# Altium footprint library CAPPRD250W50D630H1100V - 0 - 0.PcbLib: 1 footprints
Each footprint in its own frame and in the unit in brackets; x right, y up, seen from the top. Pads: shape width x height; smd on the part's side, far side on the other; paste and mask are expansions set on the pad; w line width, h text height; cw(c..) or ccw(c..) is an arc to the next point about the centre after c.
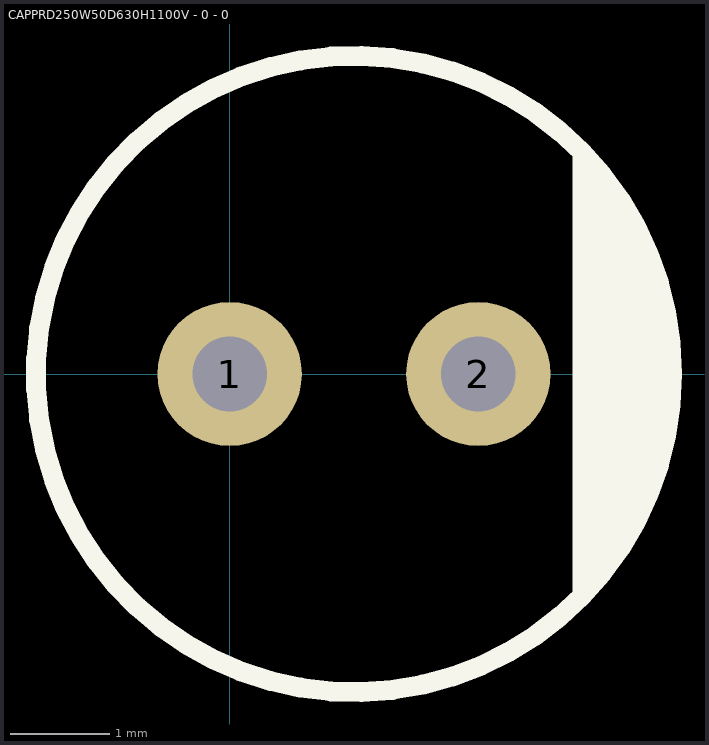
[diagram p0: the footprint, top view; thin cyan lines are the x and y axes]

## CAPPRD250W50D630H1100V - 0 - 0 [mm] "CAP ALUM RADIAL DIA 6.3MM HEIGHT 11MM PITCH 2.5MM"
height 11
pads (2):
  round 1.45 hole 0.75: 1(0,0) 2(2.5,0)
Top Overlay:
  circle w0.2: c1.25,0 r3.2
  region: 3.45,2.3 3.45,-2.3 3.85,-1.9 3.993,-1.757 4.217,-1.422 4.371,-1.049 4.45,-0.653 4.45,-0.451 4.45,0.248 4.45,0.498 4.352,0.989 4.161,1.451 3.883,1.867 3.706,2.044
3D body: height 11, standoff 0, extent -1.9,-3.147 4.4,3.147